# Altium schematic symbol library UMK316BBJ106KL-T.SchLib: 1 symbol
Pins are listed as number, name and electrical type; pins without a type are passive.

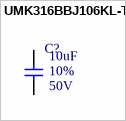
[diagram p0: symbol UMK316BBJ106KL-T]

## UMK316BBJ106KL-T
designator C?  Rated Voltage: 50V  Tolerance: 10%  Capacitance: 10uF  (hidden comment: UMK316BBJ106KL-T)
CAP CER 10UF 50V X5R 1206; MFR: Taiyo Yuden; PN: UMK316BBJ106KL-T; ComponentLink1Description: Datasheet; ComponentLink1URL: https://www.yuden.co.jp/productdata/catalog/mlcc06_e.pdf; Temperature Coefficient: X5R; Package: 1206; Footprint: C1206; Supplier 1: Mouser; Supplier Part Number 1: 963-UMK316BBJ106KL-T
footprint C1206 (A generic C1206 footprint)
pins: 1, 2